# Altium schematic symbol library PMA3-14LN+_.SchLib: 1 symbol
Pins are listed as number, name and electrical type; pins without a type are passive.

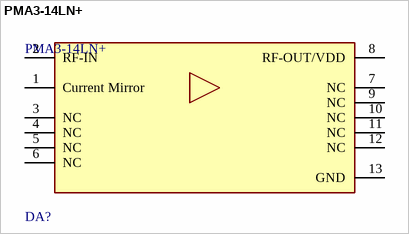
[diagram p0: symbol PMA3-14LN+]

## PMA3-14LN+
designator DA?
Monolithic Amplifier 0.05 to 10 GHz
footprint FP-DQ1225-IPC_C
footprint FP-DQ1225-MFG
footprint FP-DQ1225-IPC_A
footprint FP-DQ1225-IPC_B
pins: 1 Current Mirror, 2 RF-IN, 3 NC, 4 NC, 5 NC, 6 NC, 7 NC, 8 RF-OUT/VDD, 9 NC, 10 NC, 11 NC, 12 NC, 13 GND (power)